# Altium footprint library MERES.PcbLib: 90 footprints (part 4 of 6)
Each footprint in its own frame and in the unit in brackets; x right, y up, seen from the top. Pads: shape width x height; smd on the part's side, far side on the other; paste and mask are expansions set on the pad; w line width, h text height; cw(c..) or ccw(c..) is an arc to the next point about the centre after c.
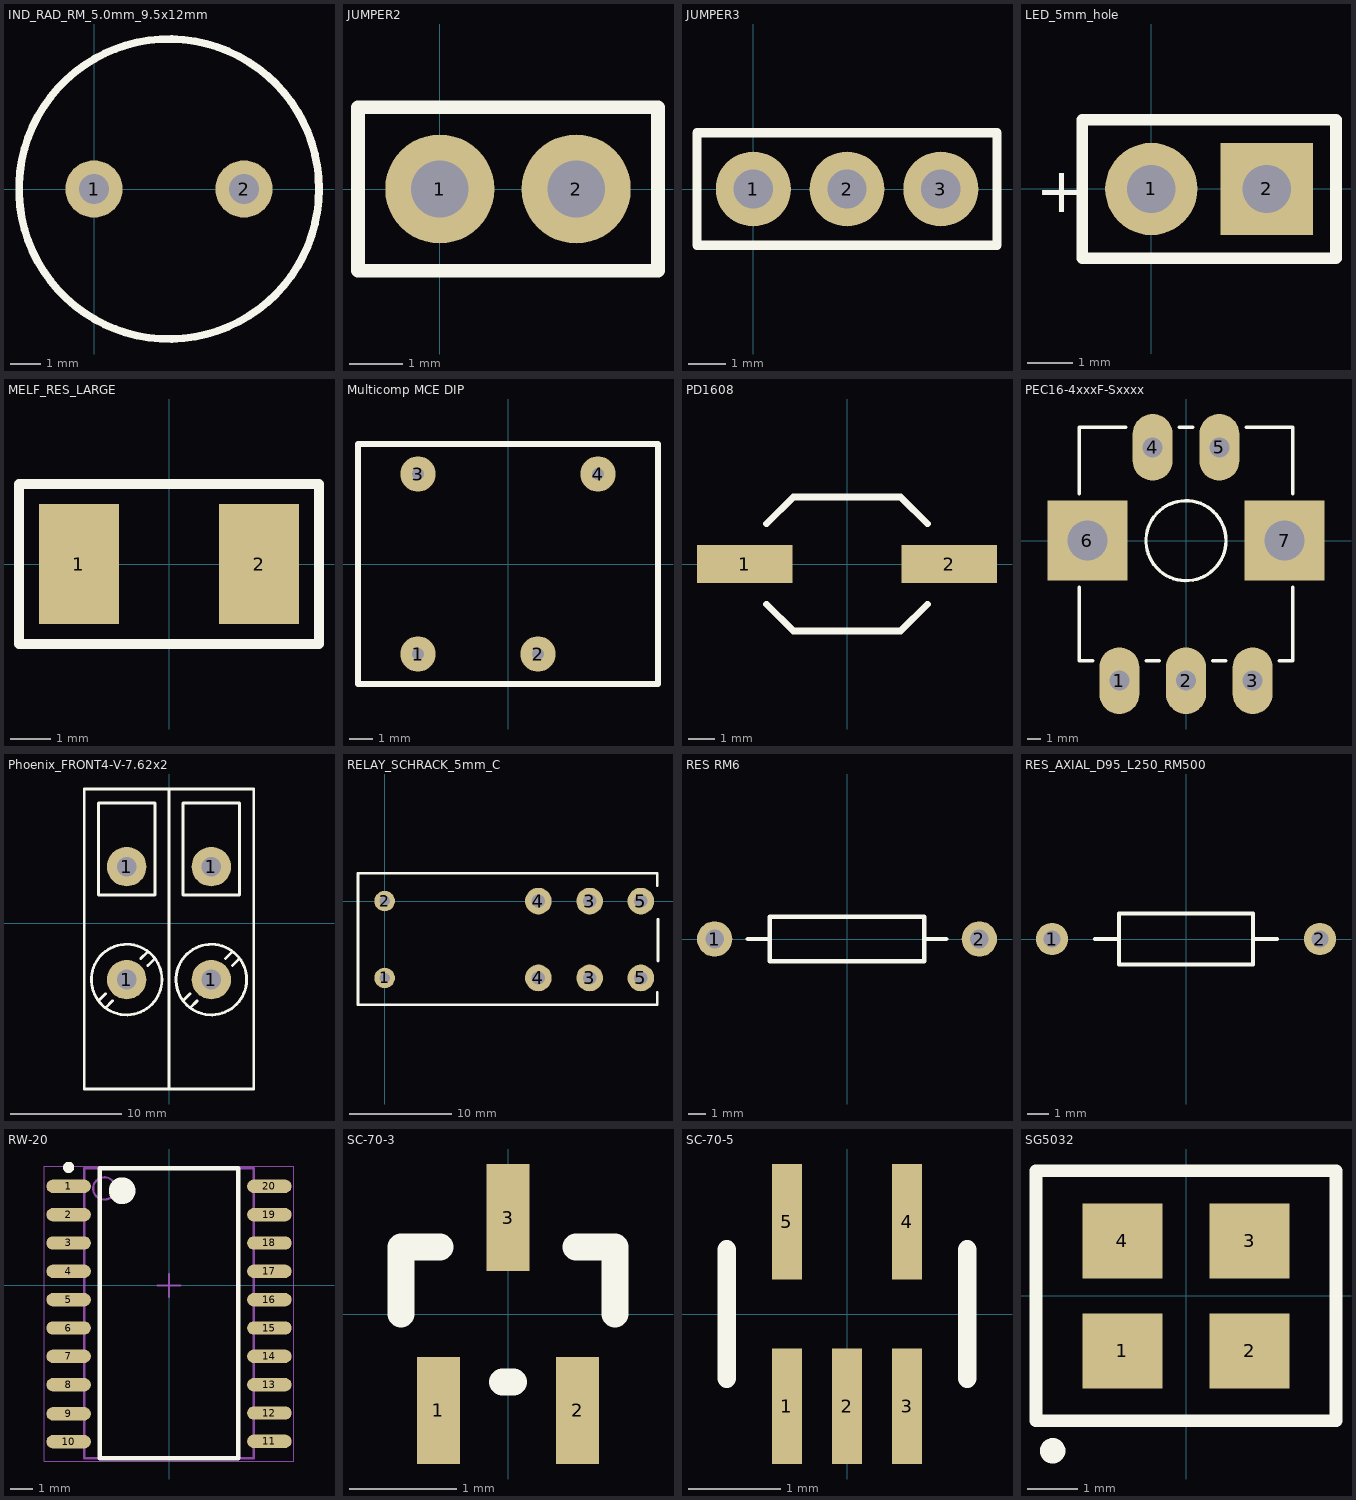
[diagram p3: the footprints below, top view; thin cyan lines are the x and y axes]

## IND_RAD_RM_5.0mm_9.5x12mm [mm]
pads (2):
  round 1.905 hole 1: 1(0,0) 2(5,0)
Top Overlay:
  circle w0.254: c2.5,0 r5
Mechanical 1:
  circle w0.254: c0,0 r0.33
3D body: height 12, standoff 0.5, extent -2.51,-5.01 7.51,5.01
3D body: height 0.5, standoff -4.5, extent -0.336,-0.336 0.336,0.336
3D body: height 0.5, standoff -4.5, extent 4.664,-0.336 5.336,0.336

## JUMPER2 [mil]
pads (2):
  round 80 hole 42: 1(0,0) 2(100,0)
Top Overlay:
  lines w10: -60,-60 -60,60 160,60 160,-60 -60,-60
3D body: height 346.22, standoff -112.05, extent -50,-50 150,50

## JUMPER3 [mil]
pads (3):
  round 80 hole 42: 1(0,0) 2(100,0) 3(200,0)
Top Overlay:
  lines w10: -60,-60 260,-60 260,60 -60,60 -60,-60
3D body: height 346.22, standoff -112.05, extent -50,-50 250,50

## LED_5mm_hole [mil]
pads (2):
  round 80 hole 42: 1(0,0)
  rect 80x80 hole 42: 2(100,0)
Top Overlay:
  lines w10: -60,-60 160,-60 160,60 -60,60 -60,-60
  text "+" at -100,-20 h39.37

## MELF_RES_LARGE [mm]
pads (2):
  rect 2x3 smd: 1(-2.25,0) 2(2.25,0)
Top Overlay:
  lines w0.254: -3.75,-2 -3.75,2 3.75,2 3.75,-2 -3.75,-2
3D body: height 2.2, standoff 0, extent -2.565,-1.075 2.735,1.125

## Multicomp MCE DIP [mm]
pads (4):
  round 1.5 hole 0.5: 1(-3.81,-3.81) 2(1.27,-3.81) 3(-3.81,3.81) 4(3.81,3.81)
Top Overlay:
  lines w0.254: -6.35,-5.08 6.35,-5.08 6.35,5.08 -6.35,5.08 -6.35,-5.08
3D body: height 6.86, standoff 0, extent -6.349,-5.079 6.349,5.079
3D body: height 3, standoff -3, extent -4.064,3.556 -3.556,4.064
3D body: height 3, standoff -3, extent 3.556,3.556 4.064,4.064
3D body: height 3, standoff -3, extent 1.016,-4.064 1.524,-3.556
3D body: height 3, standoff -3, extent -4.064,-4.064 -3.556,-3.556

## PD1608 [mm]
pads (2):
  rect 3.56x1.4 smd: 1(-3.81,0) 2(3.81,0)
Top Overlay:
  lines w0.254: -3,-1.5 -2,-2.5 0,-2.5 2,-2.5 3,-1.5 ; -3,1.5 -2,2.5 0,2.5 2,2.5 3,1.5

## PEC16-4xxxF-Sxxxx [mm]
pads (7):
  oval 3x5 hole 1.5: 1(-5,-10.5) 2(0,-10.5) 3(5,-10.5) 4(-2.5,7) 5(2.5,7)
  rect 6x6 hole 3: 6(-7.4,0) 7(7.4,0)
Top Overlay:
  circle w0.254: c0,0 r3
  lines w0.254: -8,-3.5 -8,-9 -7,-9 ; -8,3.5 -8,8.5 -4.5,8.5 ; -3,-9 -2,-9 ; -0.5,8.5 0.5,8.5 ; 2,-9 3,-9 ; 4.5,8.5 8,8.5 8,3.5 ; 7,-9 8,-9 8,-3.5
3D body: height 8, standoff 0, extent -8.127,-9.127 8.127,8.627
3D body: height 13, standoff 0, extent -4.509,-4.509 4.509,4.509
3D body: height 23, standoff 0, extent -3.009,-3.009 3.009,3.009

## Phoenix_FRONT4-V-7.62x2 [mil]
pads (4):
  round 140 hole 70: 1(-150,-200) 1(-150,200) 1(150,-200) 1(150,200)
Top Overlay:
  circle w10: c-150,-200 r125
  circle w10: c150,-200 r125
  lines w10: -250,-275 -225,-250 ; -225,-300 -200,-275 ; -100,-125 -75,-100 ; -75,-150 -50,-125 ; 50,-275 75,-250 ; 75,-300 100,-275 ; 200,-125 225,-100 ; 225,-150 250,-125 ; 0,-587.5 -300,-587.5 -300,475 0,475 ; 0,-587.5 0,475 ; 0,-587.5 0,475 ; 0,-587.5 300,-587.5 300,475 0,475 ; -250,100 -50,100 -50,425 -250,425 -250,100 ; 50,100 50,425 250,425 250,100 50,100
3D body: height 1036.38, standoff -184.09, extent -300,-587.99 98.43,475
3D body: height 1036.38, standoff -184.09, extent 0,-587.99 398.43,475

## RELAY_SCHRACK_5mm_C [mm]
pads (8):
  round 2 hole 1: 1(0,-7.5) 2(0,0)
  round 2.6 hole 1.3: 3(20,-7.5) 3(20,0) 4(15,-7.5) 4(15,0) 5(25,-7.5) 5(25,0)
Top Overlay:
  lines w0.254: 26.6,-8.89 26.6,-10.1 -2.6,-10.1 -2.6,2.7 26.6,2.7 26.6,1.524 ; 26.67,-5.842 26.67,-1.778
3D body: height 16, standoff -3.3, extent -2.65,-10.3 26.65,2.7

## RES RM6 [mil] "2W-os ellenállás"
pads (2):
  round 80 hole 42: 1(-300,0) 2(300,0)
Top Overlay:
  lines w10: -225,0 -175,0 ; 175,0 225,0 ; -175,-50 -175,50 175,50 175,-50 -175,-50
3D body: height 106.18, standoff -153.66, extent -312.2,-52.5 312.2,49.86

## RES_AXIAL_D95_L250_RM500 [mil] "Ellenállás D = 2.4 mm  Testhossz = 6.3 mm  Raszter = 12.7 mm"
pads (2):
  round 60 hole 32: 1(-250,0) 2(250,0)
Top Overlay:
  lines w7.87: -170,0 -125,0 ; 125,0 170,0 ; -125,-47.5 -125,47.5 125,47.5 125,-47.5 -125,-47.5

## RW-20 [mm] "SOIC, 20-Leads, Body .x7.5mm, Pitch 1.27mm, IPC High Density"
height 2.65
pads (20):
  oval 2x0.6 smd: 1(-4.5,4.445) 2(-4.5,3.175) 3(-4.5,1.905) 4(-4.5,0.635) 5(-4.5,-0.635) 6(-4.5,-1.905) 7(-4.5,-3.175) 8(-4.5,-4.445) 9(-4.5,-5.75) 10(-4.5,-7) 11(4.5,-6.985) 12(4.5,-5.715) 13(4.5,-4.445) 14(4.5,-3.175) 15(4.5,-1.905) 16(4.5,-0.635) 17(4.5,0.635) 18(4.5,1.905) 19(4.5,3.175) 20(4.5,4.445)
Top Overlay:
  circle w0.6: c-2.1,4.25 r0.3
  circle w0.25: c-4.5,5.295 r0.125
  lines w0.2: -3.1,-7.747 3.1,-7.747 3.1,5.25 -3.1,5.25 -3.1,-7.747
Mechanical 13:
  circle w0.1: c-2.9,4.35 r0.5
  lines w0.1: -3.8,-7.747 3.8,-7.747 3.8,5.25 -3.8,5.25 -3.8,-7.747
Mechanical 15:
  lines w0.05: -5.6,-7.874 5.6,-7.874 5.6,5.35 -5.6,5.35 -5.6,-7.874
  lines w0.1: -0.5,0 0.5,0 ; 0,-0.5 0,0.5
3D body: height 2.65, standoff 0.1, extent -3.809,-7.747 3.8,5.25

## SC-70-3 [mm]
pads (3):
  rect 0.4x1 smd: 1(-0.65,-0.9) 2(0.65,-0.9) 3(0,0.9)
Top Overlay:
  lines w0.254: -1,0 -1,0.625 -0.635,0.625 ; -0.051,-0.635 0.051,-0.635 ; 0.635,0.625 1,0.625 1,0
3D body: height 1, standoff 0, extent -1,-0.6 1,0.6
3D body: height 0.5, standoff 0, extent -0.175,0.6 0.175,1.05
3D body: height 0.5, standoff 0, extent 0.475,-1.05 0.825,-0.6
3D body: height 0.5, standoff 0, extent -0.825,-1.05 -0.475,-0.6

## SC-70-5 [mm]
pads (5):
  rect 0.325x1.25 smd: 1(-0.65,-1) 2(0,-1) 3(0.65,-1) 4(0.65,1) 5(-0.65,1)
Top Overlay:
  lines w0.203: -1.303,-0.7 -1.303,0.7 ; 1.303,-0.7 1.303,0.7

## SG5032 [mm]
height 1.3
pads (4):
  rect 1.6x1.5 smd: 1(-1.27,-1.1) 2(1.27,-1.1) 3(1.27,1.1) 4(-1.27,1.1)
Top Overlay:
  circle w0.254: c-2.667,-3.099 r0.127
  lines w0.254: -3,-2.5 3,-2.5 3,2.5 2.5,2.5 -3,2.5 -3,-2.5
3D body: height 1.3, standoff 0, extent -2.499,-1.599 2.499,1.599